# Altium footprint library AMS_Footprints.PcbLib: 3 footprints
Each footprint in its own frame and in the unit in brackets; x right, y up, seen from the top. Pads: shape width x height; smd on the part's side, far side on the other; paste and mask are expansions set on the pad; w line width, h text height; cw(c..) or ccw(c..) is an arc to the next point about the centre after c.
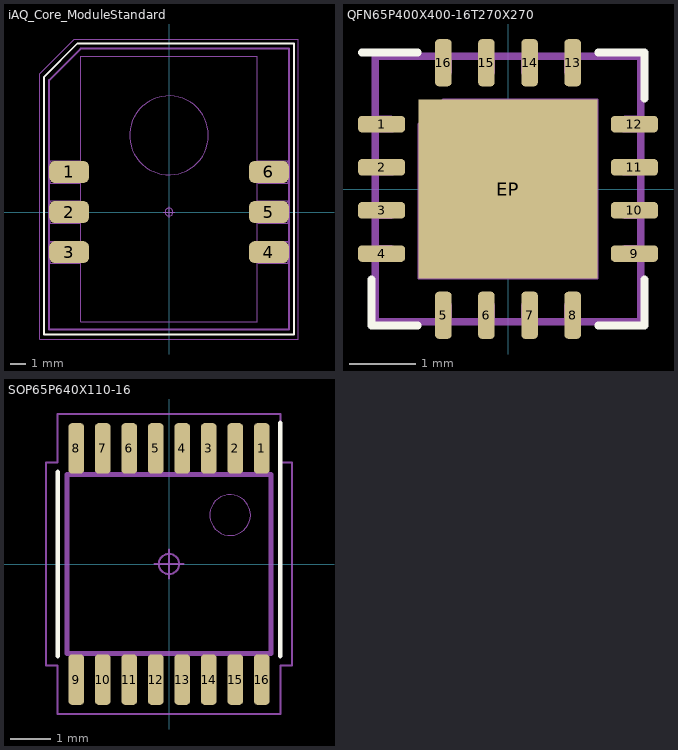
[diagram p0: the footprints below, top view; thin cyan lines are the x and y axes]

## iAQ_Core_ModuleStandard [mm] "Recommended Footprint (standard)"
pads (6):
  rrect55% 2.54x1.4 smd: 1(-6.33,2.54) 2(-6.33,0) 3(-6.33,-2.54) 4(6.33,-2.54) 5(6.33,0) 6(6.33,2.54)
Top Overlay:
  lines w0.12: -7.92,-7.76 7.92,-7.76 7.92,10.68 -5.8,10.68 -7.92,8.56 -7.92,-7.76
Mechanical 11:
  lines w0.12: -7.6,-7.44 -7.6,8.36 -5.6,10.36 7.6,10.36 7.6,-7.44 -7.6,-7.44
Mechanical 12:
  circle w0.025: c0,4.86 r2.5
  lines w0.025: -7.6,-3.242 ccw(c-8.015,-2.54) -7.6,-1.838 -7.6,-0.702 ccw(c-8.015,0) -7.6,0.702 ; -7.6,-1.84 -5.65,-1.84 -5.65,-3.24 -7.6,-3.24 -7.6,-7.44 7.6,-7.44 7.6,-3.24 5.65,-3.24 5.65,-1.84 7.6,-1.84 7.6,-0.7 5.65,-0.7 5.65,0.7 7.6,0.7 7.6,1.84 5.65,1.84 5.65,3.24 7.6,3.24 ; -7.6,-0.7 -5.65,-0.7 -5.65,0.7 -7.6,0.7 -7.6,1.84 -5.65,1.84 -5.65,3.24 -7.6,3.24 -7.6,8.36 -5.6,10.36 7.6,10.36 7.6,3.242 ccw(c8.015,2.54) 7.6,1.838 ; -7.6,1.838 ccw(c-8.015,2.54) -7.6,3.242 ; 7.6,-3.242 cw(c8.015,-2.54) 7.6,-1.838 ; 7.6,-0.702 cw(c8.015,0) 7.6,0.702 ; -5.6,-6.94 5.6,-6.94 5.6,9.86 -5.6,9.86 -5.6,-6.94
Mechanical 15:
  circle w0.05: c0,0 r0.25
  lines w0.05: -0.35,0 0.35,0 ; 0,-0.35 0,0.35 ; -8.205,-8.045 8.205,-8.045 8.205,10.965 -6,10.965 -8.205,8.76 -8.205,-8.045 ; -7.6,8.35 -7.6,8.35
Mechanical 16:
  text "'.Designator'" at 0,0 h1.2

## QFN65P400X400-16T270X270 [mm] "Quad Flat No-Lead (QFN with Tab), 0.65 mm pitch; square, 4 pin X 4 pin, 4.00 mm L X 4.00 mm W X 0.90 mm H body"
height 0.9
pads (17):
  rrect48% 0.71x0.25 smd: 1(-1.905,0.977) 2(-1.905,0.327) 3(-1.905,-0.323) 4(-1.905,-0.972) 9(1.905,-0.972) 10(1.905,-0.323) 11(1.905,0.327) 12(1.905,0.977)
  rrect48% 0.25x0.71 smd: 5(-0.975,-1.902) 6(-0.325,-1.902) 7(0.325,-1.902) 8(0.975,-1.902) 13(0.975,1.903) 14(0.325,1.903) 15(-0.325,1.903) 16(-0.975,1.903)
  rect 2.7x2.7 smd paste-2.7: EP(0,0)
Top Overlay:
  lines w0.12: -2.2,2.06 -1.36,2.06 ; -2.06,-1.362 -2.06,-2.06 -1.36,-2.06 ; 1.36,-2.06 2.06,-2.06 2.06,-1.362 ; 1.36,2.06 2.06,2.06 2.06,1.362
Top Paste:
  region: 1.09,-1.09 0.13,-1.09 0.13,-0.13 1.09,-0.13
  region: 1.09,0.13 0.13,0.13 0.13,1.09 1.09,1.09
  region: -0.13,-1.09 -1.09,-1.09 -1.09,-0.13 -0.13,-0.13
  region: -0.13,0.13 -1.09,0.13 -1.09,1.09 -0.13,1.09
Mechanical 11:
  lines w0.12: -2,-2 2,-2 2,2 -2,2 -2,-2
Mechanical 12:
  lines w0.025: -1.35,0.978 -1.35,-1.347 1.35,-1.347 1.35,1.353 -0.975,1.353 ; -1.35,0.978 -0.975,1.352 ; -1.35,0.978 -1.35,-1.35 1.35,-1.35 1.35,1.35 -0.978,1.35 -1.35,0.978 ; -0.975,1.352 -0.975,1.353 ; -2,-1.997 2,-1.997 2,2.003 -2,2.003 -2,-1.997 ; -1.95,-1.087 -1.95,-0.857 -1.75,-0.857 cw(c-1.766,-0.972) -1.75,-1.087 -1.95,-1.087 ; -1.95,-0.437 -1.95,-0.208 -1.75,-0.208 cw(c-1.766,-0.323) -1.75,-0.437 -1.95,-0.437 ; -1.95,0.213 -1.95,0.443 -1.75,0.443 cw(c-1.766,0.327) -1.75,0.213 -1.95,0.213 ; -1.95,0.863 -1.95,1.092 -1.75,1.092 cw(c-1.766,0.977) -1.75,0.862 -1.95,0.863 ; -1.09,-1.947 -0.86,-1.947 -0.86,-1.747 ccw(c-0.975,-1.764) -1.09,-1.747 -1.09,-1.947 ; -1.09,1.753 ccw(c-0.975,1.769) -0.86,1.753 -0.86,1.953 -1.09,1.953 -1.09,1.753 ; -0.44,-1.947 -0.44,-1.747 cw(c-0.325,-1.764) -0.21,-1.747 -0.21,-1.947 -0.44,-1.947 ; -0.44,1.753 ccw(c-0.325,1.769) -0.21,1.753 -0.21,1.953 -0.44,1.953 -0.44,1.753 ; 0.21,-1.947 0.44,-1.947 0.44,-1.747 ccw(c0.325,-1.764) 0.21,-1.747 0.21,-1.947 ; 0.21,1.753 ccw(c0.325,1.769) 0.44,1.753 0.44,1.953 0.21,1.953 0.21,1.753 ; 0.86,-1.947 1.09,-1.947 1.09,-1.747 ccw(c0.975,-1.764) 0.86,-1.747 0.86,-1.947 ; 0.86,1.753 ccw(c0.975,1.769) 1.09,1.753 1.09,1.953 0.86,1.953 0.86,1.753 ; 1.75,-1.087 cw(c1.766,-0.972) 1.75,-0.857 1.95,-0.857 1.95,-1.087 1.75,-1.087 ; 1.75,-0.437 cw(c1.766,-0.322) 1.75,-0.207 1.95,-0.208 1.95,-0.437 1.75,-0.437 ; 1.75,0.213 cw(c1.766,0.328) 1.75,0.443 1.95,0.443 1.95,0.213 1.75,0.213 ; 1.75,0.863 cw(c1.766,0.978) 1.75,1.092 1.95,1.092 1.95,0.863 1.75,0.863
Mechanical 15:
  circle w0.05: c0,0 r0.25
  lines w0.05: -0.35,0 0.35,0 ; 0,-0.35 0,0.35
Mechanical 16:
  text "'.Designator'" at 0,0 h1.2
3D body "QFN17P65_400X400X90L40X23T270.STEP": height 0.9, standoff 0, extent -2.05,-2.05 2.05,2.05

## SOP65P640X110-16 [mm] "Small Outline Pkg (SOP), 0.65 mm pitch; 16 pin, 5.00 mm L X 4.40 mm W X 1.10 mm H body"
height 1.1
pads (16):
  rrect51% 0.39x1.24 smd: 1(2.275,2.835) 2(1.625,2.835) 3(0.975,2.835) 4(0.325,2.835) 5(-0.325,2.835) 6(-0.975,2.835) 7(-1.625,2.835) 8(-2.275,2.835) 9(-2.275,-2.835) 10(-1.625,-2.835) 11(-0.975,-2.835) 12(-0.325,-2.835) 13(0.325,-2.835) 14(0.975,-2.835) 15(1.625,-2.835) 16(2.275,-2.835)
Top Overlay:
  lines w0.12: -2.73,-2.26 -2.73,2.26 ; 2.73,-2.26 2.73,3.455
Mechanical 11:
  lines w0.12: -2.5,-2.2 2.5,-2.2 2.5,2.2 -2.5,2.2 -2.5,-2.2
Mechanical 12:
  circle w0.025: c1.5,1.2 r0.5
  lines w0.025: -2.5,-2.2 -2.5,2.2 2.5,2.2 2.5,-2.2 -2.5,-2.2 ; -2.399,2.6 -2.154,2.6 -2.154,3.2 -2.399,3.2 -2.399,2.6 ; -2.397,-3.2 -2.397,-2.6 -2.152,-2.6 -2.152,-3.2 -2.397,-3.2 ; -1.749,2.6 -1.504,2.6 -1.504,3.2 -1.749,3.2 -1.749,2.6 ; -1.747,-3.2 -1.747,-2.6 -1.502,-2.6 -1.502,-3.2 -1.747,-3.2 ; -1.099,2.6 -0.854,2.6 -0.854,3.2 -1.099,3.2 -1.099,2.6 ; -1.097,-3.2 -1.097,-2.6 -0.852,-2.6 -0.852,-3.2 -1.097,-3.2 ; -0.449,2.6 -0.204,2.6 -0.204,3.2 -0.449,3.2 -0.449,2.6 ; -0.447,-3.2 -0.447,-2.6 -0.202,-2.6 -0.202,-3.2 -0.447,-3.2 ; 0.2,2.6 0.2,3.2 0.445,3.2 0.445,2.6 0.2,2.6 ; 0.202,-3.2 0.447,-3.2 0.447,-2.6 0.202,-2.6 0.202,-3.2 ; 0.85,2.6 0.85,3.2 1.095,3.2 1.095,2.6 0.85,2.6 ; 0.852,-3.2 1.097,-3.2 1.097,-2.6 0.852,-2.6 0.852,-3.2 ; 1.5,2.6 1.5,3.2 1.745,3.2 1.745,2.6 1.5,2.6 ; 1.502,-3.2 1.747,-3.2 1.747,-2.6 1.502,-2.6 1.502,-3.2 ; 2.15,2.6 2.15,3.2 2.395,3.2 2.395,2.6 2.15,2.6 ; 2.152,-3.2 2.397,-3.2 2.397,-2.6 2.152,-2.6 2.152,-3.2
Mechanical 15:
  circle w0.05: c0,0 r0.25
  lines w0.05: -0.35,0 0.35,0 ; 0,-0.35 0,0.35 ; -3.015,-2.485 -3.015,2.485 -2.73,2.485 -2.73,3.68 2.73,3.68 2.73,2.485 3.015,2.485 3.015,-2.485 2.73,-2.485 2.73,-3.68 -2.73,-3.68 -2.73,-2.485 -3.015,-2.485
Mechanical 16:
  text "'.Designator'" at 0,0 h1.2
3D body "SOP16P65_500X640X110L60X24.STEP": height 1.1, standoff 0, extent -2.5,-3.2 2.5,3.2